# Altium schematic symbol library Recovery.SchLib: 5 symbols
Pins are listed as number, name and electrical type; pins without a type are passive.

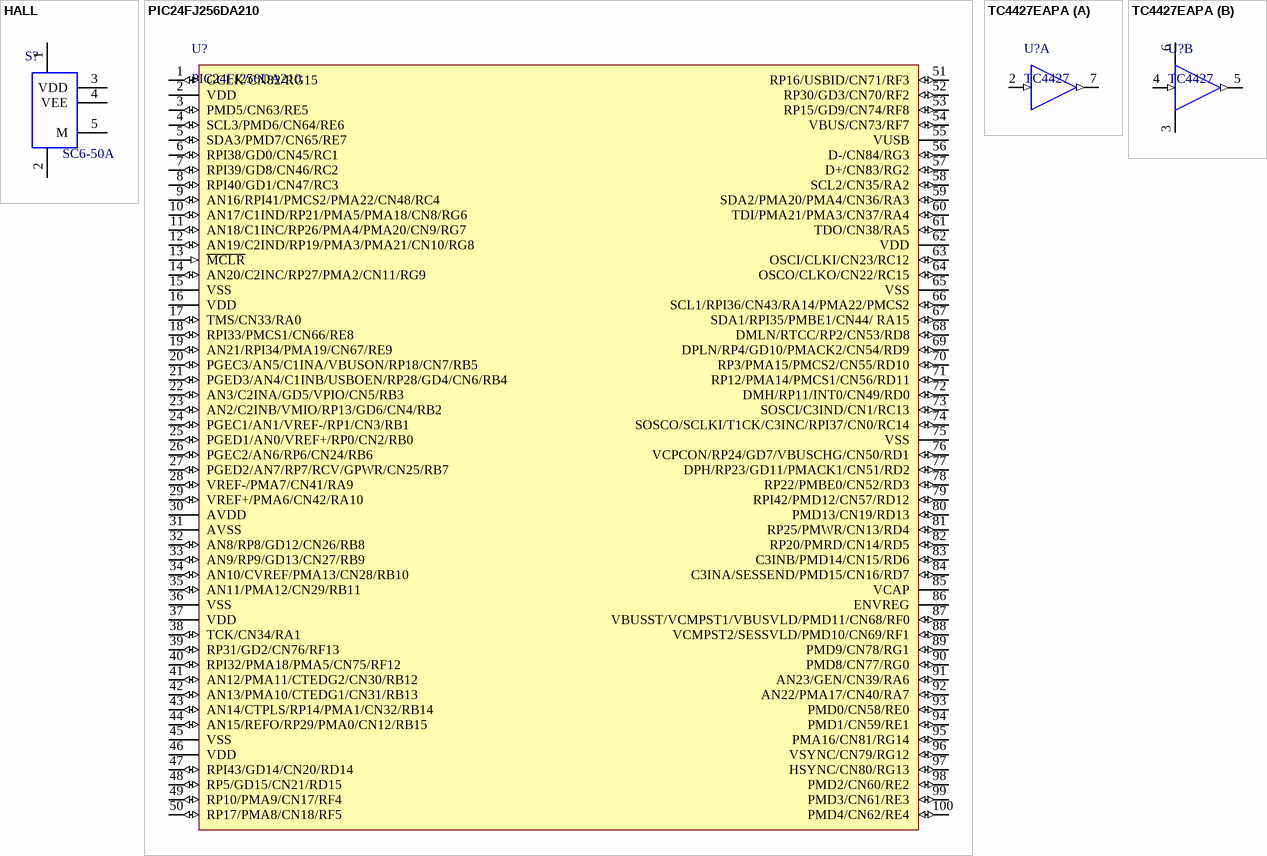
[diagram p0: symbols HALL to TC4427EAPA]

## HALL
designator S?, comment SC6-50A
Shunt Resistor; Value: SC6-50A
pins: 1, 2, 3 VDD, 4 VEE, 5 M

## PIC24FJ256DA210
designator U?
Graphic Controller; Value: PIC24FJ256DA210
footprint TQFP-PT100_M (Footprint not found)
footprint TQFP-PT100_M (Thin QFP, 100-Leads, Body 12x12mm, Pitch 0.4mm, IPC Low Density)
pins: 1 GCLK/CN82/RG15 (io), 2 VDD (power), 3 PMD5/CN63/RE5 (io), 4 SCL3/PMD6/CN64/RE6 (io), 5 SDA3/PMD7/CN65/RE7 (io), 6 RPI38/GD0/CN45/RC1 (io), 7 RPI39/GD8/CN46/RC2 (io), 8 RPI40/GD1/CN47/RC3 (io), 9 AN16/RPI41/PMCS2/PMA22/CN48/RC4 (io), 10 AN17/C1IND/RP21/PMA5/PMA18/CN8/RG6 (io), 11 AN18/C1INC/RP26/PMA4/PMA20/CN9/RG7 (io), 12 AN19/C2IND/RP19/PMA3/PMA21/CN10/RG8 (io), 13 ~{MCLR} (in), 14 AN20/C2INC/RP27/PMA2/CN11/RG9 (io), 15 VSS (power), 16 VDD (power), 17 TMS/CN33/RA0 (io), 18 RPI33/PMCS1/CN66/RE8 (io), 19 AN21/RPI34/PMA19/CN67/RE9 (io), 20 PGEC3/AN5/C1INA/VBUSON/RP18/CN7/RB5 (io), 21 PGED3/AN4/C1INB/USBOEN/RP28/GD4/CN6/RB4 (io), 22 AN3/C2INA/GD5/VPIO/CN5/RB3 (io), 23 AN2/C2INB/VMIO/RP13/GD6/CN4/RB2 (io), 24 PGEC1/AN1/VREF-/RP1/CN3/RB1 (io), 25 PGED1/AN0/VREF+/RP0/CN2/RB0 (io), 26 PGEC2/AN6/RP6/CN24/RB6 (io), 27 PGED2/AN7/RP7/RCV/GPWR/CN25/RB7 (io), 28 VREF-/PMA7/CN41/RA9 (io), 29 VREF+/PMA6/CN42/RA10 (io), 30 AVDD (power), 31 AVSS (power), 32 AN8/RP8/GD12/CN26/RB8 (io), 33 AN9/RP9/GD13/CN27/RB9 (io), 34 AN10/CVREF/PMA13/CN28/RB10 (io), 35 AN11/PMA12/CN29/RB11 (io), 36 VSS (power), 37 VDD (power), 38 TCK/CN34/RA1 (io), 39 RP31/GD2/CN76/RF13 (io), 40 RPI32/PMA18/PMA5/CN75/RF12 (io), 41 AN12/PMA11/CTEDG2/CN30/RB12 (io), 42 AN13/PMA10/CTEDG1/CN31/RB13 (io), 43 AN14/CTPLS/RP14/PMA1/CN32/RB14 (io), 44 AN15/REFO/RP29/PMA0/CN12/RB15 (io), 45 VSS (power), 46 VDD (power), 47 RPI43/GD14/CN20/RD14 (io), 48 RP5/GD15/CN21/RD15 (io), 49 RP10/PMA9/CN17/RF4 (io), 50 RP17/PMA8/CN18/RF5 (io), 51 RP16/USBID/CN71/RF3 (io), 52 RP30/GD3/CN70/RF2 (io), 53 RP15/GD9/CN74/RF8 (io), 54 VBUS/CN73/RF7 (io), 55 VUSB, 56 D-/CN84/RG3 (io), 57 D+/CN83/RG2 (io), 58 SCL2/CN35/RA2 (io), 59 SDA2/PMA20/PMA4/CN36/RA3 (io), 60 TDI/PMA21/PMA3/CN37/RA4 (io), 61 TDO/CN38/RA5 (io), 62 VDD (power), 63 OSCI/CLKI/CN23/RC12 (io), 64 OSCO/CLKO/CN22/RC15 (io), 65 VSS (power), 66 SCL1/RPI36/CN43/RA14/PMA22/PMCS2 (io), 67 SDA1/RPI35/PMBE1/CN44/ RA15 (io), 68 DMLN/RTCC/RP2/CN53/RD8 (io), 69 DPLN/RP4/GD10/PMACK2/CN54/RD9 (io), 70 RP3/PMA15/PMCS2/CN55/RD10 (io), 71 RP12/PMA14/PMCS1/CN56/RD11 (io), 72 DMH/RP11/INT0/CN49/RD0 (io), 73 SOSCI/C3IND/CN1/RC13 (io), 74 SOSCO/SCLKI/T1CK/C3INC/RPI37/CN0/RC14 (io), 75 VSS (power), 76 VCPCON/RP24/GD7/VBUSCHG/CN50/RD1 (io), 77 DPH/RP23/GD11/PMACK1/CN51/RD2 (io), 78 RP22/PMBE0/CN52/RD3 (io), 79 RPI42/PMD12/CN57/RD12 (io), 80 PMD13/CN19/RD13 (io), 81 RP25/PMWR/CN13/RD4 (io), 82 RP20/PMRD/CN14/RD5 (io), 83 C3INB/PMD14/CN15/RD6 (io), 84 C3INA/SESSEND/PMD15/CN16/RD7 (io), 85 VCAP, 86 ENVREG, 87 VBUSST/VCMPST1/VBUSVLD/PMD11/CN68/RF0 (io), 88 VCMPST2/SESSVLD/PMD10/CN69/RF1 (io), 89 PMD9/CN78/RG1 (io), 90 PMD8/CN77/RG0 (io), 91 AN23/GEN/CN39/RA6 (io), 92 AN22/PMA17/CN40/RA7 (io), 93 PMD0/CN58/RE0 (io), 94 PMD1/CN59/RE1 (io), 95 PMA16/CN81/RG14 (io), 96 VSYNC/CN79/RG12 (io), 97 HSYNC/CN80/RG13 (io), 98 PMD2/CN60/RE2 (io), 99 PMD3/CN61/RE3 (io), 100 PMD4/CN62/RE4 (io)

## TC4427EAPA
designator U?, comment TC4427
1.5A Dual High-Speed Power MOSFET Driver, Non-Inverting, Industrial Temperature; Value: TC4427EAPA
footprint DIP-8 (DIP, 8-Pin, Row Spacing 7.62 mm, Pitch 2.54 mm)
part A pins: 2 INA (in), 7 OUTA (out)
part B pins: 3 GND (power), 4 INB (in), 5 OUTB (out), 6 VCC (power)

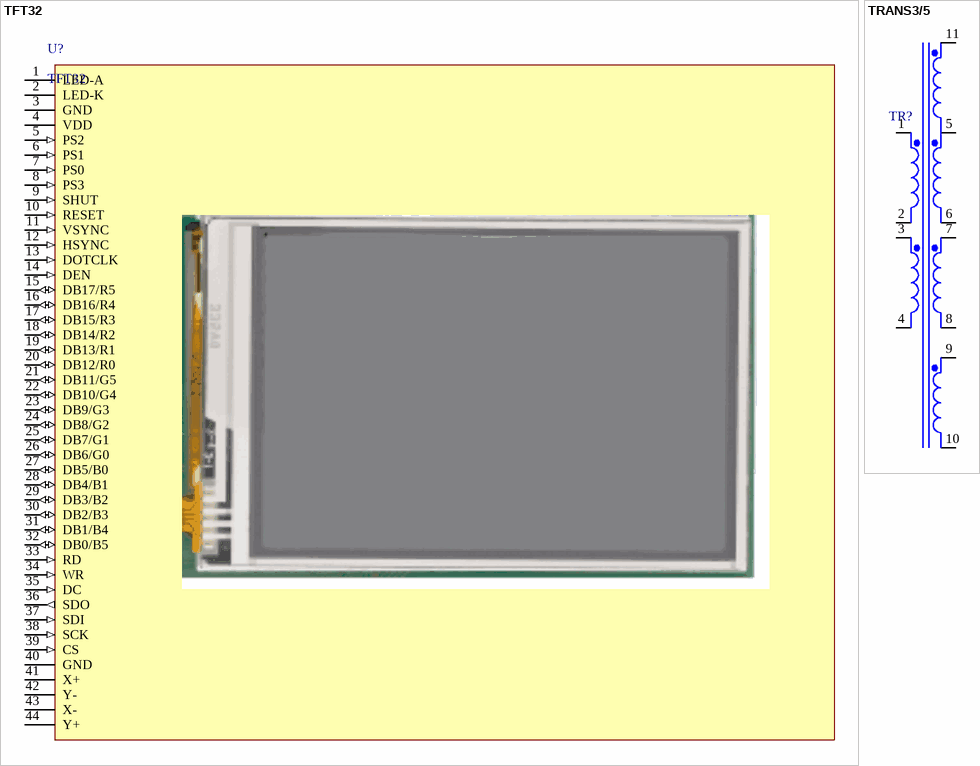
[diagram p1: symbols TFT32 to TRANS3/5]

## TFT32
designator U?
LCD TFT 3.2 inch with touch screen; Value: TFT2N0369-E
footprint TFT-32 (LCD TFT 3.2 inch with touch screen)
pins: 1 LED-A , 2 LED-K, 3 GND (power), 4 VDD (power), 5 PS2 (in), 6 PS1 (in), 7 PS0 (in), 8 PS3 (in), 9 SHUT (in), 10 RESET (in), 11 VSYNC (in), 12 HSYNC (in), 13 DOTCLK (in), 14 DEN (in), 15 DB17/R5 (io), 16 DB16/R4 (io), 17 DB15/R3 (io), 18 DB14/R2 (io), 19 DB13/R1 (io), 20 DB12/R0 (io), 21 DB11/G5 (io), 22 DB10/G4 (io), 23 DB9/G3 (io), 24 DB8/G2 (io), 25 DB7/G1 (io), 26 DB6/G0 (io), 27 DB5/B0 (io), 28 DB4/B1 (io), 29 DB3/B2 (io), 30 DB2/B3 (io), 31 DB1/B4 (io), 32 DB0/B5 (io), 33 RD (in), 34 WR (in), 35 DC (in), 36 SDO (out), 37 SDI (in), 38 SCK (in), 39 CS (in), 40 GND (power), 41 X+, 42 Y-, 43 X-, 44 Y+

## TRANS3/5
designator TR?, comment TR3/5  (value not drawn)
Transformer power supply for accu recovery; Value: TR3/5
pins: 1 Pri1+, 2 Pri1-, 3 Pri2+, 4 Pri2-, 5 Sec1+, 6 Sec1-, 7 Sec2+, 8 Sec2-, 9 Sec3+, 10 Sec3-, 11 Sec4